# Altium schematic symbol library 1206 10uF 50V.Schlib: 1 symbol
Pins are listed as number, name and electrical type; pins without a type are passive.

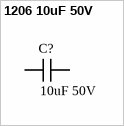
[diagram p0: symbol 1206 10uF 50V]

## 1206 10uF 50V
designator C?, comment value 10uF 50V  (hidden comment: Capacitor)
10uF ±10% 50V X7R 1206 Multilayer Ceramic Capacitors MLCC - SMD/SMT RoHS; ComponentLink1Description: LCSC - Samsung Electro-Mechanics CL31B106KBHNNNE; ComponentLink1URL: https://lcsc.com/product-detail/Multilayer-Ceramic-Capacitors-MLCC-SMD-SMT_Samsung-Electro-Mechanics-CL31B106KBHNNNE_C89632.html; JLCPCB Part Type: Extended; LCSC Part #: C89632
footprint CAP 1206_3216 - 1.2MM (Chip Capacitor, 2-Leads, Body 3.25x1.60mm, IPC Medium Density)
pins: 1, 2